# Altium integrated library Passive.IntLib: 1327 symbols (part 1 of 10)
Pins are listed as number, name and electrical type; pins without a type are passive.

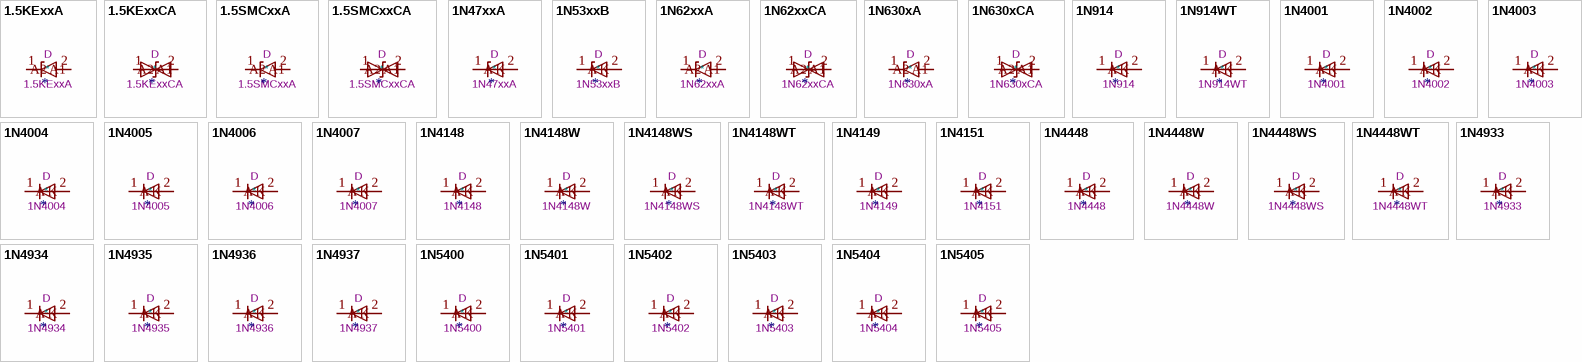
[diagram p0: symbols 1.5KExxA to 1N5405]

## 1.5KExxA
designator *  value 1.5KExxA  Reference: D
1500W unidirectional TVS diode, DO-201AE; ki_keywords: transient voltage suppressor TRANSZORB®; ki_fp_filters: D?DO?201AE*; Footprint: Diode_THT:D_DO-201AE_P15.24mm_Horizontal; Datasheet: https://www.vishay.com/docs/88301/15ke.pdf; Description_: 1500W unidirectional TVS diode, DO-201AE
pins: 1 A1, 2 A2

## 1.5KExxCA
designator *  value 1.5KExxCA  Reference: D
1500W bidirectional TVS diode, DO-201AE; ki_keywords: transient voltage suppressor TRANSZORB®; ki_fp_filters: D?DO?201AE*; Footprint: Diode_THT:D_DO-201AE_P15.24mm_Horizontal; Datasheet: https://www.vishay.com/docs/88301/15ke.pdf; Description_: 1500W bidirectional TVS diode, DO-201AE
pins: 1 A1, 2 A2

## 1.5SMCxxA
designator *  value 1.5SMCxxA  Reference: D
1500W unidirectional TVS diode, SMC (DO-201AB); ki_keywords: transient voltage suppressor TRANSZORB®; ki_fp_filters: D?SMC*; Footprint: Diode_SMD:D_SMC; Datasheet: https://www.vishay.com/docs/88303/15smc.pdf; Description_: 1500W unidirectional TVS diode, SMC (DO-201AB)
pins: 1 A1, 2 A2

## 1.5SMCxxCA
designator *  value 1.5SMCxxCA  Reference: D
1500W bidirectional TVS diode, SMC (DO-201AB); ki_keywords: transient voltage suppressor TRANSZORB®; ki_fp_filters: D?SMC*; Footprint: Diode_SMD:D_SMC; Datasheet: https://www.vishay.com/docs/88303/15smc.pdf; Description_: 1500W bidirectional TVS diode, SMC (DO-201AB)
pins: 1 A1, 2 A2

## 1N47xxA
designator *  value 1N47xxA  Reference: D
1300mW Silicon planar power Zener diodes, DO-41; ki_fp_filters: D*DO?41*; Footprint: Diode_THT:D_DO-41_SOD81_P10.16mm_Horizontal; Datasheet: https://www.vishay.com/docs/85816/1n4728a.pdf; Description_: 1300mW Silicon planar power Zener diodes, DO-41; ki_keywords: zener diode
pins: 1 K, 2 A

## 1N53xxB
designator *  value 1N53xxB  Reference: D
5000mW Zener Diode, DO-201; ki_fp_filters: D*DO?201*; Footprint: Diode_THT:D_DO-201_P15.24mm_Horizontal; Datasheet: https://diotec.com/tl_files/diotec/files/pdf/datasheets/1n5345b.pdf; Description_: 5000mW Zener Diode, DO-201; ki_keywords: zener diode
pins: 1 K, 2 A

## 1N62xxA
designator *  value 1N62xxA  Reference: D
1500W unidirectional TRANSZORB® Transient Voltage Suppressor, DO-201AE; ki_keywords: diode TVS voltage suppressor; ki_fp_filters: D?DO?201AE*; Footprint: Diode_THT:D_DO-201AE_P15.24mm_Horizontal; Datasheet: https://www.vishay.com/docs/88301/15ke.pdf; Description_: 1500W unidirectional TRANSZORB® Transient Voltage Suppressor, DO-201AE
pins: 1 A1, 2 A2

## 1N62xxCA
designator *  value 1N62xxCA  Reference: D
1500W bidirectional TRANSZORB® Transient Voltage Suppressor, DO-201AE; ki_keywords: diode TVS voltage suppressor; ki_fp_filters: D?DO?201AE*; Footprint: Diode_THT:D_DO-201AE_P15.24mm_Horizontal; Datasheet: https://www.vishay.com/docs/88301/15ke.pdf; Description_: 1500W bidirectional TRANSZORB® Transient Voltage Suppressor, DO-201AE
pins: 1 A1, 2 A2

## 1N630xA
designator *  value 1N630xA  Reference: D
1500W unidirectional TRANSZORB® Transient Voltage Suppressor, DO-201AE; ki_keywords: diode TVS voltage suppressor; ki_fp_filters: D?DO?201AE*; Footprint: Diode_THT:D_DO-201AE_P15.24mm_Horizontal; Datasheet: https://www.vishay.com/docs/88301/15ke.pdf; Description_: 1500W unidirectional TRANSZORB® Transient Voltage Suppressor, DO-201AE
pins: 1 A1, 2 A2

## 1N630xCA
designator *  value 1N630xCA  Reference: D
1500W bidirectional TRANSZORB® Transient Voltage Suppressor, DO-201AE; ki_keywords: diode TVS voltage suppressor; ki_fp_filters: D?DO?201AE*; Footprint: Diode_THT:D_DO-201AE_P15.24mm_Horizontal; Datasheet: https://www.vishay.com/docs/88301/15ke.pdf; Description_: 1500W bidirectional TRANSZORB® Transient Voltage Suppressor, DO-201AE
pins: 1 A1, 2 A2

## 1N914
designator *  value 1N914  Reference: D
100V 0.3A Small Signal Fast Switching Diode, DO-35; Sim.Pins: 1=K 2=A; ki_fp_filters: D*DO?35*; Footprint: Diode_THT:D_DO-35_SOD27_P7.62mm_Horizontal; Datasheet: http://www.vishay.com/docs/85622/1n914.pdf; Description_: 100V 0.3A Small Signal Fast Switching Diode, DO-35; Sim.Device: D; ki_keywords: diode
pins: 1 K, 2 A

## 1N914WT
designator *  value 1N914WT  Reference: D
75V 0.15A Fast switching Diode, SOD-523; Sim.Pins: 1=K 2=A; ki_fp_filters: D*SOD?523*; Footprint: Diode_SMD:D_SOD-523; Datasheet: http://www.mouser.com/ds/2/149/1N4148WT-461550.pdf; Description_: 75V 0.15A Fast switching Diode, SOD-523; Sim.Device: D; ki_keywords: diode
pins: 1 K, 2 A

## 1N4001
designator *  value 1N4001  Reference: D
50V 1A General Purpose Rectifier Diode, DO-41; Sim.Pins: 1=K 2=A; ki_fp_filters: D*DO?41*; Footprint: Diode_THT:D_DO-41_SOD81_P10.16mm_Horizontal; Datasheet: http://www.vishay.com/docs/88503/1n4001.pdf; Description_: 50V 1A General Purpose Rectifier Diode, DO-41; Sim.Device: D; ki_keywords: diode
pins: 1 K, 2 A

## 1N4002
designator *  value 1N4002  Reference: D
100V 1A General Purpose Rectifier Diode, DO-41; Sim.Pins: 1=K 2=A; ki_fp_filters: D*DO?41*; Footprint: Diode_THT:D_DO-41_SOD81_P10.16mm_Horizontal; Datasheet: http://www.vishay.com/docs/88503/1n4001.pdf; Description_: 100V 1A General Purpose Rectifier Diode, DO-41; Sim.Device: D; ki_keywords: diode
pins: 1 K, 2 A

## 1N4003
designator *  value 1N4003  Reference: D
200V 1A General Purpose Rectifier Diode, DO-41; Sim.Pins: 1=K 2=A; ki_fp_filters: D*DO?41*; Footprint: Diode_THT:D_DO-41_SOD81_P10.16mm_Horizontal; Datasheet: http://www.vishay.com/docs/88503/1n4001.pdf; Description_: 200V 1A General Purpose Rectifier Diode, DO-41; Sim.Device: D; ki_keywords: diode
pins: 1 K, 2 A

## 1N4004
designator *  value 1N4004  Reference: D
400V 1A General Purpose Rectifier Diode, DO-41; Sim.Pins: 1=K 2=A; ki_fp_filters: D*DO?41*; Footprint: Diode_THT:D_DO-41_SOD81_P10.16mm_Horizontal; Datasheet: http://www.vishay.com/docs/88503/1n4001.pdf; Description_: 400V 1A General Purpose Rectifier Diode, DO-41; Sim.Device: D; ki_keywords: diode
pins: 1 K, 2 A

## 1N4005
designator *  value 1N4005  Reference: D
600V 1A General Purpose Rectifier Diode, DO-41; Sim.Pins: 1=K 2=A; ki_fp_filters: D*DO?41*; Footprint: Diode_THT:D_DO-41_SOD81_P10.16mm_Horizontal; Datasheet: http://www.vishay.com/docs/88503/1n4001.pdf; Description_: 600V 1A General Purpose Rectifier Diode, DO-41; Sim.Device: D; ki_keywords: diode
pins: 1 K, 2 A

## 1N4006
designator *  value 1N4006  Reference: D
800V 1A General Purpose Rectifier Diode, DO-41; Sim.Pins: 1=K 2=A; ki_fp_filters: D*DO?41*; Footprint: Diode_THT:D_DO-41_SOD81_P10.16mm_Horizontal; Datasheet: http://www.vishay.com/docs/88503/1n4001.pdf; Description_: 800V 1A General Purpose Rectifier Diode, DO-41; Sim.Device: D; ki_keywords: diode
pins: 1 K, 2 A

## 1N4007
designator *  value 1N4007  Reference: D
1000V 1A General Purpose Rectifier Diode, DO-41; Sim.Pins: 1=K 2=A; ki_fp_filters: D*DO?41*; Footprint: Diode_THT:D_DO-41_SOD81_P10.16mm_Horizontal; Datasheet: http://www.vishay.com/docs/88503/1n4001.pdf; Description_: 1000V 1A General Purpose Rectifier Diode, DO-41; Sim.Device: D; ki_keywords: diode
pins: 1 K, 2 A

## 1N4148
designator *  value 1N4148  Reference: D
100V 0.15A standard switching diode, DO-35; Sim.Pins: 1=K 2=A; ki_fp_filters: D*DO?35*; Footprint: Diode_THT:D_DO-35_SOD27_P7.62mm_Horizontal; Datasheet: https://assets.nexperia.com/documents/data-sheet/1N4148_1N4448.pdf; Description_: 100V 0.15A standard switching diode, DO-35; Sim.Device: D; ki_keywords: diode
pins: 1 K, 2 A

## 1N4148W
designator *  value 1N4148W  Reference: D
75V 0.15A Fast Switching Diode, SOD-123; Sim.Pins: 1=K 2=A; ki_fp_filters: D*SOD?123*; Footprint: Diode_SMD:D_SOD-123; Datasheet: https://www.vishay.com/docs/85748/1n4148w.pdf; Description_: 75V 0.15A Fast Switching Diode, SOD-123; Sim.Device: D; ki_keywords: diode
pins: 1 K, 2 A

## 1N4148WS
designator *  value 1N4148WS  Reference: D
75V 0.15A Fast switching Diode, SOD-323; Sim.Pins: 1=K 2=A; ki_fp_filters: D*SOD?323*; Footprint: Diode_SMD:D_SOD-323; Datasheet: https://www.vishay.com/docs/85751/1n4148ws.pdf; Description_: 75V 0.15A Fast switching Diode, SOD-323; Sim.Device: D; ki_keywords: diode
pins: 1 K, 2 A

## 1N4148WT
designator *  value 1N4148WT  Reference: D
75V 0.15A Fast switching Diode, SOD-523; Sim.Pins: 1=K 2=A; ki_fp_filters: D*SOD?523*; Footprint: Diode_SMD:D_SOD-523; Datasheet: https://www.diodes.com/assets/Datasheets/ds30396.pdf; Description_: 75V 0.15A Fast switching Diode, SOD-523; Sim.Device: D; ki_keywords: diode
pins: 1 K, 2 A

## 1N4149
designator *  value 1N4149  Reference: D
75V Vrm 0.5A Ifsm standard switching diode, DO-35; Sim.Pins: 1=K 2=A; ki_fp_filters: D*DO?35*; Footprint: Diode_THT:D_DO-35_SOD27_P7.62mm_Horizontal; Datasheet: http://www.microsemi.com/document-portal/doc_view/11580-lds-0239; Description_: 75V Vrm 0.5A Ifsm standard switching diode, DO-35; Sim.Device: D; ki_keywords: diode
pins: 1 K, 2 A

## 1N4151
designator *  value 1N4151  Reference: D
75V 0.5A standard switching diode, DO-35; Sim.Pins: 1=K 2=A; ki_fp_filters: D*DO?35*; Footprint: Diode_THT:D_DO-35_SOD27_P7.62mm_Horizontal; Datasheet: http://www.microsemi.com/document-portal/doc_view/11580-lds-0239; Description_: 75V 0.5A standard switching diode, DO-35; Sim.Device: D; ki_keywords: diode
pins: 1 K, 2 A

## 1N4448
designator *  value 1N4448  Reference: D
100V 0.15A High-speed standard diode, DO-35; Sim.Pins: 1=K 2=A; ki_fp_filters: D*DO?35*; Footprint: Diode_THT:D_DO-35_SOD27_P7.62mm_Horizontal; Datasheet: https://assets.nexperia.com/documents/data-sheet/1N4148_1N4448.pdf; Description_: 100V 0.15A High-speed standard diode, DO-35; Sim.Device: D; ki_keywords: diode
pins: 1 K, 2 A

## 1N4448W
designator *  value 1N4448W  Reference: D
100V 0.15A High-speed standard diode, SOD-123; Sim.Pins: 1=K 2=A; ki_fp_filters: D*SOD?123*; Footprint: Diode_SMD:D_SOD-123; Datasheet: https://www.vishay.com/docs/85722/1n4448w.pdf; Description_: 100V 0.15A High-speed standard diode, SOD-123; Sim.Device: D; ki_keywords: diode
pins: 1 K, 2 A

## 1N4448WS
designator *  value 1N4448WS  Reference: D
75V 0.15A Small Signal Fast switching Diode, SOD-323; Sim.Pins: 1=K 2=A; ki_fp_filters: D*SOD?323*; Footprint: Diode_SMD:D_SOD-323; Datasheet: https://www.vishay.com/docs/81387/1n4448ws.pdf; Description_: 75V 0.15A Small Signal Fast switching Diode, SOD-323; Sim.Device: D; ki_keywords: diode
pins: 1 K, 2 A

## 1N4448WT
designator *  value 1N4448WT  Reference: D
75V 0.15A Fast switching Diode, SOD-523; Sim.Pins: 1=K 2=A; ki_fp_filters: D*SOD?523*; Footprint: Diode_SMD:D_SOD-523; Datasheet: http://www.mouser.com/ds/2/149/1N4148WT-461550.pdf; Description_: 75V 0.15A Fast switching Diode, SOD-523; Sim.Device: D; ki_keywords: diode
pins: 1 K, 2 A

## 1N4933
designator *  value 1N4933  Reference: D
Fast Switching Plastic Rectifier, VRRM 50V, IF(AV) 1.0A, trr 200ns, DO-41; Sim.Pins: 1=K 2=A; ki_keywords: diode; ki_fp_filters: D*DO?41*; Footprint: Diode_THT:D_DO-41_SOD81_P10.16mm_Horizontal; Datasheet: https://www.vishay.com/docs/88508/1n4933.pdf; Description_: Fast Switching Plastic Rectifier, VRRM 50V, IF(AV) 1.0A, trr 200ns, DO-41; Sim.Device: D
pins: 1 K, 2 A

## 1N4934
designator *  value 1N4934  Reference: D
Fast Switching Plastic Rectifier, VRRM 100V, IF(AV) 1.0A, trr 200ns, DO-41; Sim.Pins: 1=K 2=A; ki_keywords: diode; ki_fp_filters: D*DO?41*; Footprint: Diode_THT:D_DO-41_SOD81_P10.16mm_Horizontal; Datasheet: https://www.vishay.com/docs/88508/1n4933.pdf; Description_: Fast Switching Plastic Rectifier, VRRM 100V, IF(AV) 1.0A, trr 200ns, DO-41; Sim.Device: D
pins: 1 K, 2 A

## 1N4935
designator *  value 1N4935  Reference: D
Fast Switching Plastic Rectifier, VRRM 200V, IF(AV) 1.0A, trr 200ns, DO-41; Sim.Pins: 1=K 2=A; ki_keywords: diode; ki_fp_filters: D*DO?41*; Footprint: Diode_THT:D_DO-41_SOD81_P10.16mm_Horizontal; Datasheet: https://www.vishay.com/docs/88508/1n4933.pdf; Description_: Fast Switching Plastic Rectifier, VRRM 200V, IF(AV) 1.0A, trr 200ns, DO-41; Sim.Device: D
pins: 1 K, 2 A

## 1N4936
designator *  value 1N4936  Reference: D
Fast Switching Plastic Rectifier, VRRM 400V, IF(AV) 1.0A, trr 200ns, DO-41; Sim.Pins: 1=K 2=A; ki_keywords: diode; ki_fp_filters: D*DO?41*; Footprint: Diode_THT:D_DO-41_SOD81_P10.16mm_Horizontal; Datasheet: https://www.vishay.com/docs/88508/1n4933.pdf; Description_: Fast Switching Plastic Rectifier, VRRM 400V, IF(AV) 1.0A, trr 200ns, DO-41; Sim.Device: D
pins: 1 K, 2 A

## 1N4937
designator *  value 1N4937  Reference: D
Fast Switching Plastic Rectifier, VRRM 600V, IF(AV) 1.0A, trr 200ns, DO-41; Sim.Pins: 1=K 2=A; ki_keywords: diode; ki_fp_filters: D*DO?41*; Footprint: Diode_THT:D_DO-41_SOD81_P10.16mm_Horizontal; Datasheet: https://www.vishay.com/docs/88508/1n4933.pdf; Description_: Fast Switching Plastic Rectifier, VRRM 600V, IF(AV) 1.0A, trr 200ns, DO-41; Sim.Device: D
pins: 1 K, 2 A

## 1N5400
designator *  value 1N5400  Reference: D
50V 3A General Purpose Rectifier Diode, DO-201AD; Sim.Pins: 1=K 2=A; ki_fp_filters: D*DO?201AD*; Footprint: Diode_THT:D_DO-201AD_P15.24mm_Horizontal; Datasheet: http://www.vishay.com/docs/88516/1n5400.pdf; Description_: 50V 3A General Purpose Rectifier Diode, DO-201AD; Sim.Device: D; ki_keywords: diode
pins: 1 K, 2 A

## 1N5401
designator *  value 1N5401  Reference: D
100V 3A General Purpose Rectifier Diode, DO-201AD; Sim.Pins: 1=K 2=A; ki_fp_filters: D*DO?201AD*; Footprint: Diode_THT:D_DO-201AD_P15.24mm_Horizontal; Datasheet: http://www.vishay.com/docs/88516/1n5400.pdf; Description_: 100V 3A General Purpose Rectifier Diode, DO-201AD; Sim.Device: D; ki_keywords: diode
pins: 1 K, 2 A

## 1N5402
designator *  value 1N5402  Reference: D
200V 3A General Purpose Rectifier Diode, DO-201AD; Sim.Pins: 1=K 2=A; ki_fp_filters: D*DO?201AD*; Footprint: Diode_THT:D_DO-201AD_P15.24mm_Horizontal; Datasheet: http://www.vishay.com/docs/88516/1n5400.pdf; Description_: 200V 3A General Purpose Rectifier Diode, DO-201AD; Sim.Device: D; ki_keywords: diode
pins: 1 K, 2 A

## 1N5403
designator *  value 1N5403  Reference: D
300V 3A General Purpose Rectifier Diode, DO-201AD; Sim.Pins: 1=K 2=A; ki_fp_filters: D*DO?201AD*; Footprint: Diode_THT:D_DO-201AD_P15.24mm_Horizontal; Datasheet: http://www.vishay.com/docs/88516/1n5400.pdf; Description_: 300V 3A General Purpose Rectifier Diode, DO-201AD; Sim.Device: D; ki_keywords: diode
pins: 1 K, 2 A

## 1N5404
designator *  value 1N5404  Reference: D
400V 3A General Purpose Rectifier Diode, DO-201AD; Sim.Pins: 1=K 2=A; ki_fp_filters: D*DO?201AD*; Footprint: Diode_THT:D_DO-201AD_P15.24mm_Horizontal; Datasheet: http://www.vishay.com/docs/88516/1n5400.pdf; Description_: 400V 3A General Purpose Rectifier Diode, DO-201AD; Sim.Device: D; ki_keywords: diode
pins: 1 K, 2 A

## 1N5405
designator *  value 1N5405  Reference: D
500V 3A General Purpose Rectifier Diode, DO-201AD; Sim.Pins: 1=K 2=A; ki_fp_filters: D*DO?201AD*; Footprint: Diode_THT:D_DO-201AD_P15.24mm_Horizontal; Datasheet: http://www.vishay.com/docs/88516/1n5400.pdf; Description_: 500V 3A General Purpose Rectifier Diode, DO-201AD; Sim.Device: D; ki_keywords: diode
pins: 1 K, 2 A

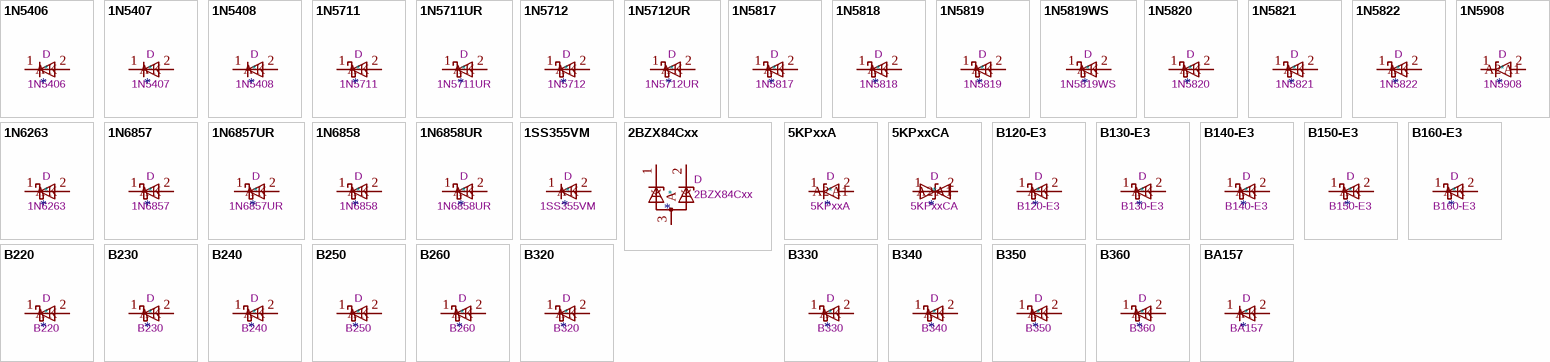
[diagram p1: symbols 1N5406 to BA157]

## 1N5406
designator *  value 1N5406  Reference: D
600V 3A General Purpose Rectifier Diode, DO-201AD; Sim.Pins: 1=K 2=A; ki_fp_filters: D*DO?201AD*; Footprint: Diode_THT:D_DO-201AD_P15.24mm_Horizontal; Datasheet: http://www.vishay.com/docs/88516/1n5400.pdf; Description_: 600V 3A General Purpose Rectifier Diode, DO-201AD; Sim.Device: D; ki_keywords: diode
pins: 1 K, 2 A

## 1N5407
designator *  value 1N5407  Reference: D
800V 3A General Purpose Rectifier Diode, DO-201AD; Sim.Pins: 1=K 2=A; ki_fp_filters: D*DO?201AD*; Footprint: Diode_THT:D_DO-201AD_P15.24mm_Horizontal; Datasheet: http://www.vishay.com/docs/88516/1n5400.pdf; Description_: 800V 3A General Purpose Rectifier Diode, DO-201AD; Sim.Device: D; ki_keywords: diode
pins: 1 K, 2 A

## 1N5408
designator *  value 1N5408  Reference: D
1000V 3A General Purpose Rectifier Diode, DO-201AD; Sim.Pins: 1=K 2=A; ki_fp_filters: D*DO?201AD*; Footprint: Diode_THT:D_DO-201AD_P15.24mm_Horizontal; Datasheet: http://www.vishay.com/docs/88516/1n5400.pdf; Description_: 1000V 3A General Purpose Rectifier Diode, DO-201AD; Sim.Device: D; ki_keywords: diode
pins: 1 K, 2 A

## 1N5711
designator *  value 1N5711  Reference: D
70V 33mA Schottky diode, DO-35; ki_keywords: diode Schottky; ki_fp_filters: D*DO?35*; Footprint: Diode_THT:D_DO-35_SOD27_P7.62mm_Horizontal; Datasheet: https://www.microsemi.com/document-portal/doc_download/8865-lds-0040-datasheet; Description_: 70V 33mA Schottky diode, DO-35
pins: 1 K, 2 A

## 1N5711UR
designator *  value 1N5711UR  Reference: D
70V 33mA Schottky diode, MELF(DO-213AA); ki_keywords: diode Schottky; ki_fp_filters: D?MELF*; Footprint: Diode_SMD:D_MELF; Datasheet: https://www.microsemi.com/document-portal/doc_download/131890-lds-0040-1-datasheet; Description_: 70V 33mA Schottky diode, MELF(DO-213AA)
pins: 1 K, 2 A

## 1N5712
designator *  value 1N5712  Reference: D
20V 75mA Schottky diode, DO-35; ki_keywords: diode Schottky; ki_fp_filters: D*DO?35*; Footprint: Diode_THT:D_DO-35_SOD27_P7.62mm_Horizontal; Datasheet: https://www.microsemi.com/document-portal/doc_download/8865-lds-0040-datasheet; Description_: 20V 75mA Schottky diode, DO-35
pins: 1 K, 2 A

## 1N5712UR
designator *  value 1N5712UR  Reference: D
20V 75mA Schottky diode, MELF(DO-213AA); ki_keywords: diode Schottky; ki_fp_filters: D?MELF*; Footprint: Diode_SMD:D_MELF; Datasheet: https://www.microsemi.com/document-portal/doc_download/131890-lds-0040-1-datasheet; Description_: 20V 75mA Schottky diode, MELF(DO-213AA)
pins: 1 K, 2 A

## 1N5817
designator *  value 1N5817  Reference: D
20V 1A Schottky Barrier Rectifier Diode, DO-41; ki_keywords: diode Schottky; ki_fp_filters: D*DO?41*; Footprint: Diode_THT:D_DO-41_SOD81_P10.16mm_Horizontal; Datasheet: http://www.vishay.com/docs/88525/1n5817.pdf; Description_: 20V 1A Schottky Barrier Rectifier Diode, DO-41
pins: 1 K, 2 A

## 1N5818
designator *  value 1N5818  Reference: D
30V 1A Schottky Barrier Rectifier Diode, DO-41; ki_keywords: diode Schottky; ki_fp_filters: D*DO?41*; Footprint: Diode_THT:D_DO-41_SOD81_P10.16mm_Horizontal; Datasheet: http://www.vishay.com/docs/88525/1n5817.pdf; Description_: 30V 1A Schottky Barrier Rectifier Diode, DO-41
pins: 1 K, 2 A

## 1N5819
designator *  value 1N5819  Reference: D
40V 1A Schottky Barrier Rectifier Diode, DO-41; ki_keywords: diode Schottky; ki_fp_filters: D*DO?41*; Footprint: Diode_THT:D_DO-41_SOD81_P10.16mm_Horizontal; Datasheet: http://www.vishay.com/docs/88525/1n5817.pdf; Description_: 40V 1A Schottky Barrier Rectifier Diode, DO-41
pins: 1 K, 2 A

## 1N5819WS
designator *  value 1N5819WS  Reference: D
40V 600mV@1A 1A SOD-323 Schottky Barrier Diodes, SOD-323; ki_keywords: diode Schottky; ki_fp_filters: D*SOD?323*; Footprint: Diode_SMD:D_SOD-323; Datasheet: https://datasheet.lcsc.com/lcsc/2204281430_Guangdong-Hottech-1N5819WS_C191023.pdf; Description_: 40V 600mV@1A 1A SOD-323 Schottky Barrier Diodes, SOD-323
pins: 1 K, 2 A

## 1N5820
designator *  value 1N5820  Reference: D
20V 3A Schottky Barrier Rectifier Diode, DO-201AD; ki_keywords: diode Schottky; ki_fp_filters: D*DO?201AD*; Footprint: Diode_THT:D_DO-201AD_P15.24mm_Horizontal; Datasheet: http://www.vishay.com/docs/88526/1n5820.pdf; Description_: 20V 3A Schottky Barrier Rectifier Diode, DO-201AD
pins: 1 K, 2 A

## 1N5821
designator *  value 1N5821  Reference: D
30V 3A Schottky Barrier Rectifier Diode, DO-201AD; ki_keywords: diode Schottky; ki_fp_filters: D*DO?201AD*; Footprint: Diode_THT:D_DO-201AD_P15.24mm_Horizontal; Datasheet: http://www.vishay.com/docs/88526/1n5820.pdf; Description_: 30V 3A Schottky Barrier Rectifier Diode, DO-201AD
pins: 1 K, 2 A

## 1N5822
designator *  value 1N5822  Reference: D
40V 3A Schottky Barrier Rectifier Diode, DO-201AD; ki_keywords: diode Schottky; ki_fp_filters: D*DO?201AD*; Footprint: Diode_THT:D_DO-201AD_P15.24mm_Horizontal; Datasheet: http://www.vishay.com/docs/88526/1n5820.pdf; Description_: 40V 3A Schottky Barrier Rectifier Diode, DO-201AD
pins: 1 K, 2 A

## 1N5908
designator *  value 1N5908  Reference: D
1500W (10/1000 μs) Unidirectional TVS Diode, VRM = 5V (IRM = 300 μA at 25°C), VBR = 6V, DO-201AE; ki_keywords: ESD protection transient voltage-suppressor transil thyrector transorb; ki_fp_filters: D?DO?201AE*; Footprint: Diode_THT:D_DO-201AE_P15.24mm_Horizontal; Datasheet: https://www.st.com/resource/en/datasheet/1n5908.pdf; Description_: 1500W (10/1000 μs) Unidirectional TVS Diode, VRM = 5V (IRM = 300 μA at 25°C), VBR = 6V, DO-201AE
pins: 1 A1, 2 A2

## 1N6263
designator *  value 1N6263  Reference: D
60V 15mA Schottky diode, DO-35; ki_keywords: diode Schottky; ki_fp_filters: D*DO?35*; Footprint: Diode_THT:D_DO-35_SOD27_P7.62mm_Horizontal; Datasheet: www.st.com/resource/en/datasheet/1n6263.pdf; Description_: 60V 15mA Schottky diode, DO-35
pins: 1 K, 2 A

## 1N6857
designator *  value 1N6857  Reference: D
20V 150mA Schottky diode, DO-35; ki_keywords: diode Schottky; ki_fp_filters: D*DO?35*; Footprint: Diode_THT:D_DO-35_SOD27_P7.62mm_Horizontal; Datasheet: https://www.microsemi.com/document-portal/doc_download/8865-lds-0040-datasheet; Description_: 20V 150mA Schottky diode, DO-35
pins: 1 K, 2 A

## 1N6857UR
designator *  value 1N6857UR  Reference: D
20V 150mA Schottky diode, MELF(DO-213AA); ki_keywords: diode Schottky; ki_fp_filters: D?MELF*; Footprint: Diode_SMD:D_MELF; Datasheet: https://www.microsemi.com/document-portal/doc_download/131890-lds-0040-1-datasheet; Description_: 20V 150mA Schottky diode, MELF(DO-213AA)
pins: 1 K, 2 A

## 1N6858
designator *  value 1N6858  Reference: D
70V 75mA Schottky diode, DO-35; ki_keywords: diode Schottky; ki_fp_filters: D*DO?35*; Footprint: Diode_THT:D_DO-35_SOD27_P7.62mm_Horizontal; Datasheet: https://www.microsemi.com/document-portal/doc_download/8865-lds-0040-datasheet; Description_: 70V 75mA Schottky diode, DO-35
pins: 1 K, 2 A

## 1N6858UR
designator *  value 1N6858UR  Reference: D
70V 75mA Schottky diode, MELF(DO-213AA); ki_keywords: diode Schottky; ki_fp_filters: D?MELF*; Footprint: Diode_SMD:D_MELF; Datasheet: https://www.microsemi.com/document-portal/doc_download/131890-lds-0040-1-datasheet; Description_: 70V 75mA Schottky diode, MELF(DO-213AA)
pins: 1 K, 2 A

## 1SS355VM
designator *  value 1SS355VM  Reference: D
90V 0.1A high speed switching Diode, SOD-323F; Sim.Pins: 1=K 2=A; ki_fp_filters: D*SOD?323F*; Footprint: Diode_SMD:D_SOD-323F; Datasheet: https://fscdn.rohm.com/en/products/databook/datasheet/discrete/diode/switching/1ss355vmte-17-e.pdf; Description_: 90V 0.1A high speed switching Diode, SOD-323F; Sim.Device: D; ki_keywords: diode
pins: 1 K, 2 A

## 2BZX84Cxx
designator *  value 2BZX84Cxx  Reference: D
300mW Double Zener Diode, SOT-23; ki_fp_filters: SOT?23*; Footprint: Package_TO_SOT_SMD:SOT-23; Datasheet: https://diotec.com/tl_files/diotec/files/pdf/datasheets/bzx84c2v4.pdf; Description_: 300mW Double Zener Diode, SOT-23; ki_keywords: zener diode
pins: 1 K, 2 K, 3 A

## 5KPxxA
designator *  value 5KPxxA  Reference: D
5000W unidirectional Transient Voltage Suppressor, P-600; ki_keywords: diode TVS voltage suppressor; ki_fp_filters: D?P600*; Footprint: Diode_THT:D_P600_R-6_P20.00mm_Horizontal; Datasheet: https://diotec.com/tl_files/diotec/files/pdf/datasheets/5kp65.pdf; Description_: 5000W unidirectional Transient Voltage Suppressor, P-600
pins: 1 A1, 2 A2

## 5KPxxCA
designator *  value 5KPxxCA  Reference: D
5000W bidirectional Transient Voltage Suppressor, P-600; ki_keywords: diode TVS voltage suppressor; ki_fp_filters: D?P600*; Footprint: Diode_THT:D_P600_R-6_P20.00mm_Horizontal; Datasheet: https://diotec.com/tl_files/diotec/files/pdf/datasheets/5kp65.pdf; Description_: 5000W bidirectional Transient Voltage Suppressor, P-600
pins: 1 A1, 2 A2

## B120-E3
designator *  value B120-E3  Reference: D
20V 1A Schottky Barrier Rectifier Diode, SMA(DO-214AC); ki_keywords: diode Schottky; ki_fp_filters: D*SMA*; Footprint: Diode_SMD:D_SMA; Datasheet: http://www.vishay.com/docs/88946/b120.pdf; Description_: 20V 1A Schottky Barrier Rectifier Diode, SMA(DO-214AC)
pins: 1 K, 2 A

## B130-E3
designator *  value B130-E3  Reference: D
30V 1A Schottky Barrier Rectifier Diode, SMA(DO-214AC); ki_keywords: diode Schottky; ki_fp_filters: D*SMA*; Footprint: Diode_SMD:D_SMA; Datasheet: http://www.vishay.com/docs/88946/b120.pdf; Description_: 30V 1A Schottky Barrier Rectifier Diode, SMA(DO-214AC)
pins: 1 K, 2 A

## B140-E3
designator *  value B140-E3  Reference: D
40V 1A Schottky Barrier Rectifier Diode, SMA(DO-214AC); ki_keywords: diode Schottky; ki_fp_filters: D*SMA*; Footprint: Diode_SMD:D_SMA; Datasheet: http://www.vishay.com/docs/88946/b120.pdf; Description_: 40V 1A Schottky Barrier Rectifier Diode, SMA(DO-214AC)
pins: 1 K, 2 A

## B150-E3
designator *  value B150-E3  Reference: D
50V 1A Schottky Barrier Rectifier Diode, SMA(DO-214AC); ki_keywords: diode Schottky; ki_fp_filters: D*SMA*; Footprint: Diode_SMD:D_SMA; Datasheet: http://www.vishay.com/docs/88946/b120.pdf; Description_: 50V 1A Schottky Barrier Rectifier Diode, SMA(DO-214AC)
pins: 1 K, 2 A

## B160-E3
designator *  value B160-E3  Reference: D
60V 1A Schottky Barrier Rectifier Diode, SMA(DO-214AC); ki_keywords: diode Schottky; ki_fp_filters: D*SMA*; Footprint: Diode_SMD:D_SMA; Datasheet: http://www.vishay.com/docs/88946/b120.pdf; Description_: 60V 1A Schottky Barrier Rectifier Diode, SMA(DO-214AC)
pins: 1 K, 2 A

## B220
designator *  value B220  Reference: D
20V 2A Schottky Barrier Rectifier Diode, SMB; ki_keywords: diode Schottky; ki_fp_filters: D*SMB*; Footprint: Diode_SMD:D_SMB; Datasheet: http://www.jameco.com/Jameco/Products/ProdDS/1538777.pdf; Description_: 20V 2A Schottky Barrier Rectifier Diode, SMB
pins: 1 K, 2 A

## B230
designator *  value B230  Reference: D
30V 2A Schottky Barrier Rectifier Diode, SMB; ki_keywords: diode Schottky; ki_fp_filters: D*SMB*; Footprint: Diode_SMD:D_SMB; Datasheet: http://www.jameco.com/Jameco/Products/ProdDS/1538777.pdf; Description_: 30V 2A Schottky Barrier Rectifier Diode, SMB
pins: 1 K, 2 A

## B240
designator *  value B240  Reference: D
40V 2A Schottky Barrier Rectifier Diode, SMB; ki_keywords: diode Schottky; ki_fp_filters: D*SMB*; Footprint: Diode_SMD:D_SMB; Datasheet: http://www.jameco.com/Jameco/Products/ProdDS/1538777.pdf; Description_: 40V 2A Schottky Barrier Rectifier Diode, SMB
pins: 1 K, 2 A

## B250
designator *  value B250  Reference: D
50V 2A Schottky Barrier Rectifier Diode, SMB; ki_keywords: diode Schottky; ki_fp_filters: D*SMB*; Footprint: Diode_SMD:D_SMB; Datasheet: http://www.jameco.com/Jameco/Products/ProdDS/1538777.pdf; Description_: 50V 2A Schottky Barrier Rectifier Diode, SMB
pins: 1 K, 2 A

## B260
designator *  value B260  Reference: D
60V 2A Schottky Barrier Rectifier Diode, SMB; ki_keywords: diode Schottky; ki_fp_filters: D*SMB*; Footprint: Diode_SMD:D_SMB; Datasheet: http://www.jameco.com/Jameco/Products/ProdDS/1538777.pdf; Description_: 60V 2A Schottky Barrier Rectifier Diode, SMB
pins: 1 K, 2 A

## B320
designator *  value B320  Reference: D
20V 3A Schottky Barrier Rectifier Diode, SMC; ki_keywords: diode Schottky; ki_fp_filters: D*SMC*; Footprint: Diode_SMD:D_SMC; Datasheet: http://www.jameco.com/Jameco/Products/ProdDS/1538777.pdf; Description_: 20V 3A Schottky Barrier Rectifier Diode, SMC
pins: 1 K, 2 A

## B330
designator *  value B330  Reference: D
30V 3A Schottky Barrier Rectifier Diode, SMC; ki_keywords: diode Schottky; ki_fp_filters: D*SMC*; Footprint: Diode_SMD:D_SMC; Datasheet: http://www.jameco.com/Jameco/Products/ProdDS/1538777.pdf; Description_: 30V 3A Schottky Barrier Rectifier Diode, SMC
pins: 1 K, 2 A

## B340
designator *  value B340  Reference: D
40V 3A Schottky Barrier Rectifier Diode, SMC; ki_keywords: diode Schottky; ki_fp_filters: D*SMC*; Footprint: Diode_SMD:D_SMC; Datasheet: http://www.jameco.com/Jameco/Products/ProdDS/1538777.pdf; Description_: 40V 3A Schottky Barrier Rectifier Diode, SMC
pins: 1 K, 2 A

## B350
designator *  value B350  Reference: D
50V 3A Schottky Barrier Rectifier Diode, SMC; ki_keywords: diode Schottky; ki_fp_filters: D*SMC*; Footprint: Diode_SMD:D_SMC; Datasheet: http://www.jameco.com/Jameco/Products/ProdDS/1538777.pdf; Description_: 50V 3A Schottky Barrier Rectifier Diode, SMC
pins: 1 K, 2 A

## B360
designator *  value B360  Reference: D
60V 3A Schottky Barrier Rectifier Diode, SMC; ki_keywords: diode Schottky; ki_fp_filters: D*SMC*; Footprint: Diode_SMD:D_SMC; Datasheet: http://www.jameco.com/Jameco/Products/ProdDS/1538777.pdf; Description_: 60V 3A Schottky Barrier Rectifier Diode, SMC
pins: 1 K, 2 A

## BA157
designator *  value BA157  Reference: D
400V 1A Fast recovery Rectifier Diode, DO-41; Sim.Pins: 1=K 2=A; ki_fp_filters: D*DO?41*; Footprint: Diode_THT:D_DO-41_SOD81_P10.16mm_Horizontal; Datasheet: https://www.vishay.com/docs/88536/ba157.pdf; Description_: 400V 1A Fast recovery Rectifier Diode, DO-41; Sim.Device: D; ki_keywords: diode
pins: 1 K, 2 A

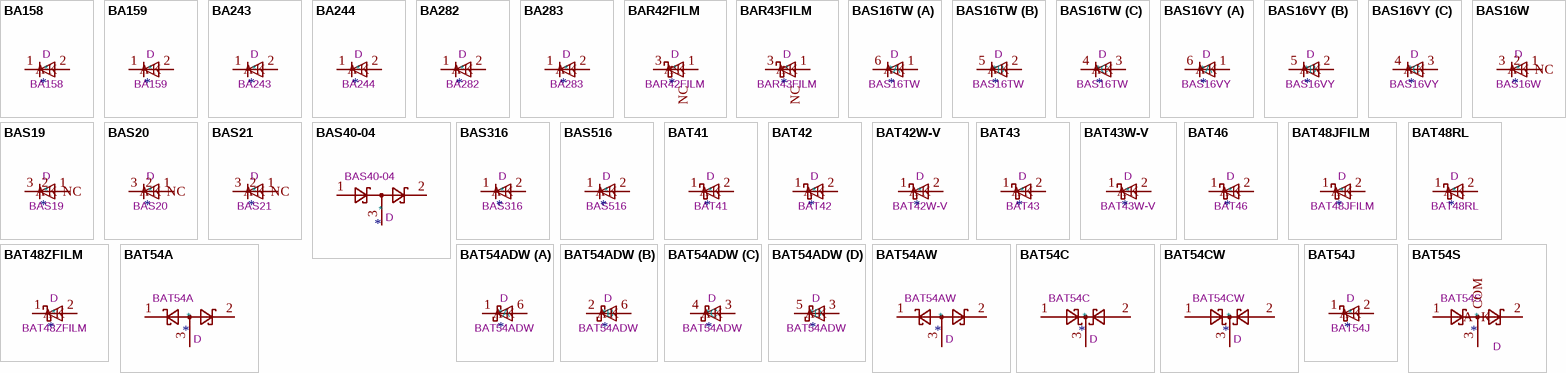
[diagram p2: symbols BA158 to BAT54S]

## BA158
designator *  value BA158  Reference: D
600V 1A Fast recovery Rectifier Diode, DO-41; Sim.Pins: 1=K 2=A; ki_fp_filters: D*DO?41*; Footprint: Diode_THT:D_DO-41_SOD81_P10.16mm_Horizontal; Datasheet: https://www.vishay.com/docs/88536/ba157.pdf; Description_: 600V 1A Fast recovery Rectifier Diode, DO-41; Sim.Device: D; ki_keywords: diode
pins: 1 K, 2 A

## BA159
designator *  value BA159  Reference: D
1000V 1A Fast recovery Rectifier Diode, DO-41; Sim.Pins: 1=K 2=A; ki_fp_filters: D*DO?41*; Footprint: Diode_THT:D_DO-41_SOD81_P10.16mm_Horizontal; Datasheet: https://www.vishay.com/docs/88536/ba157.pdf; Description_: 1000V 1A Fast recovery Rectifier Diode, DO-41; Sim.Device: D; ki_keywords: diode
pins: 1 K, 2 A

## BA243
designator *  value BA243  Reference: D
20V 0.1A silicon planar diode for VHF tuner band selection, DO-35; Sim.Pins: 1=K 2=A; ki_fp_filters: D*DO?35*; Footprint: Diode_THT:D_DO-35_SOD27_P7.62mm_Horizontal; Datasheet: http://cdn-reichelt.de/documents/datenblatt/A400/BA243_TFK.pdf; Description_: 20V 0.1A silicon planar diode for VHF tuner band selection, DO-35; Sim.Device: D; ki_keywords: diode
pins: 1 K, 2 A

## BA244
designator *  value BA244  Reference: D
20V 0.1A silicon planar diode for VHF tuner band selection, DO-35; Sim.Pins: 1=K 2=A; ki_fp_filters: D*DO?35*; Footprint: Diode_THT:D_DO-35_SOD27_P7.62mm_Horizontal; Datasheet: http://cdn-reichelt.de/documents/datenblatt/A400/BA243_TFK.pdf; Description_: 20V 0.1A silicon planar diode for VHF tuner band selection, DO-35; Sim.Device: D; ki_keywords: diode
pins: 1 K, 2 A

## BA282
designator *  value BA282  Reference: D
35V 0.1A Band Switching Diode, DO-35; Sim.Pins: 1=K 2=A; ki_fp_filters: D*DO?35*; Footprint: Diode_THT:D_DO-35_SOD27_P7.62mm_Horizontal; Datasheet: http://docs-europe.electrocomponents.com/webdocs/1304/0900766b813040d6.pdf; Description_: 35V 0.1A Band Switching Diode, DO-35; Sim.Device: D; ki_keywords: diode
pins: 1 K, 2 A

## BA283
designator *  value BA283  Reference: D
35V 0.1A Band Switching Diode, DO-35; Sim.Pins: 1=K 2=A; ki_fp_filters: D*DO?35*; Footprint: Diode_THT:D_DO-35_SOD27_P7.62mm_Horizontal; Datasheet: http://docs-europe.electrocomponents.com/webdocs/1304/0900766b813040d6.pdf; Description_: 35V 0.1A Band Switching Diode, DO-35; Sim.Device: D; ki_keywords: diode
pins: 1 K, 2 A

## BAR42FILM
designator *  value BAR42FILM  Reference: D
30V 0.1A Small signal Schottky diode, SOT-23; ki_keywords: diode Schottky; ki_fp_filters: SOT?23*; Footprint: Package_TO_SOT_SMD:SOT-23; Datasheet: www.st.com/resource/en/datasheet/bar42.pdf; Description_: 30V 0.1A Small signal Schottky diode, SOT-23
pins: 1 A, 2 NC, 3 K

## BAR43FILM
designator *  value BAR43FILM  Reference: D
30V 0.1A Small signal Schottky diode, SOT-23; ki_keywords: diode Schottky; ki_fp_filters: SOT?23*; Footprint: Package_TO_SOT_SMD:SOT-23; Datasheet: www.st.com/resource/en/datasheet/bar43.pdf; Description_: 30V 0.1A Small signal Schottky diode, SOT-23
pins: 1 A, 2 NC, 3 K

## BAS16TW
designator *  value BAS16TW  Reference: D
Fast switching diode array 3 independent; ki_fp_filters: *SOT?363*; Footprint: Package_TO_SOT_SMD:SOT-363_SC-70-6; Datasheet: http://www.diodes.com/datasheets/ds30154.pdf; Description_: Fast switching diode array 3 independent; ki_keywords: diode
part A pins: 1 A, 6 K
part B pins: 2 A, 5 K
part C pins: 3 A, 4 K

## BAS16VY
designator *  value BAS16VY  Reference: D
Fast switching diode array 3 independent; ki_fp_filters: *SOT?363*; Footprint: Package_TO_SOT_SMD:SOT-363_SC-70-6; Datasheet: https://assets.nexperia.com/documents/data-sheet/BAS16_SER.pdf; Description_: Fast switching diode array 3 independent; ki_keywords: diode
part A pins: 1 A, 6 K
part B pins: 2 A, 5 K
part C pins: 3 A, 4 K

## BAS16W
designator *  value BAS16W  Reference: D
100V, 0.175A, High-speed Switching Diode, SOT-323; ki_fp_filters: SOT?323*; Footprint: Package_TO_SOT_SMD:SOT-323_SC-70; Datasheet: https://assets.nexperia.com/documents/data-sheet/BAS16_SER.pdf; Description_: 100V, 0.175A, High-speed Switching Diode, SOT-323; ki_keywords: diode
pins: 1 A, 2 NC, 3 K

## BAS19
designator *  value BAS19  Reference: D
120V, 0.4A, High-speed Switching Diode, SOT-23; ki_fp_filters: SOT?23*; Footprint: Package_TO_SOT_SMD:SOT-23; Datasheet: https://www.diodes.com/assets/Datasheets/Ds12004.pdf; Description_: 120V, 0.4A, High-speed Switching Diode, SOT-23; ki_keywords: diode
pins: 1 A, 2 NC, 3 K

## BAS20
designator *  value BAS20  Reference: D
200V, 0.4A, High-speed Switching Diode, SOT-23; ki_fp_filters: SOT?23*; Footprint: Package_TO_SOT_SMD:SOT-23; Datasheet: https://www.diodes.com/assets/Datasheets/Ds12004.pdf; Description_: 200V, 0.4A, High-speed Switching Diode, SOT-23; ki_keywords: diode
pins: 1 A, 2 NC, 3 K

## BAS21
designator *  value BAS21  Reference: D
250V, 0.4A, High-speed Switching Diode, SOT-23; ki_fp_filters: SOT?23*; Footprint: Package_TO_SOT_SMD:SOT-23; Datasheet: https://www.diodes.com/assets/Datasheets/Ds12004.pdf; Description_: 250V, 0.4A, High-speed Switching Diode, SOT-23; ki_keywords: diode
pins: 1 A, 2 NC, 3 K

## BAS40-04
designator *  value BAS40-04  Reference: D
40V 0.2A Dual Small Signal Schottky Diodes; ki_keywords: Schottky, Diode; ki_fp_filters: SOT?23*; Footprint: Package_TO_SOT_SMD:SOT-23; Datasheet: http://www.vishay.com/docs/85701/bas40v.pdf; Description_: 40V 0.2A Dual Small Signal Schottky Diodes
pins: 1, 2, 3

## BAS316
designator *  value BAS316  Reference: D
100V, 0.25A, High-speed Switching Diode, SOD-323; Sim.Pins: 1=K 2=A; ki_fp_filters: D*SOD?323*; Footprint: Diode_SMD:D_SOD-323; Datasheet: https://assets.nexperia.com/documents/data-sheet/BAS16_SER.pdf; Description_: 100V, 0.25A, High-speed Switching Diode, SOD-323; Sim.Device: D; ki_keywords: diode
pins: 1 K, 2 A

## BAS516
designator *  value BAS516  Reference: D
100V, 0.25A, High-speed Switching Diode, SOD-523; Sim.Pins: 1=K 2=A; ki_fp_filters: D*SOD?523*; Footprint: Diode_SMD:D_SOD-523; Datasheet: https://assets.nexperia.com/documents/data-sheet/BAS16_SER.pdf; Description_: 100V, 0.25A, High-speed Switching Diode, SOD-523; Sim.Device: D; ki_keywords: diode
pins: 1 K, 2 A

## BAT41
designator *  value BAT41  Reference: D
100V 0.1A Small Signal Schottky Diode, DO-35; ki_keywords: diode Schottky; ki_fp_filters: D*DO?35*; Footprint: Diode_THT:D_DO-35_SOD27_P7.62mm_Horizontal; Datasheet: http://www.vishay.com/docs/85659/bat41.pdf; Description_: 100V 0.1A Small Signal Schottky Diode, DO-35
pins: 1 K, 2 A

## BAT42
designator *  value BAT42  Reference: D
30V 0.2A Small Signal Schottky Diode, DO-35; ki_keywords: diode Schottky; ki_fp_filters: D*DO?35*; Footprint: Diode_THT:D_DO-35_SOD27_P7.62mm_Horizontal; Datasheet: http://www.vishay.com/docs/85660/bat42.pdf; Description_: 30V 0.2A Small Signal Schottky Diode, DO-35
pins: 1 K, 2 A

## BAT42W-V
designator *  value BAT42W-V  Reference: D
30V 0.2A Small Signal Schottky diode, SOD-123; ki_keywords: diode Schottky; ki_fp_filters: D*SOD?123*; Footprint: Diode_SMD:D_SOD-123; Datasheet: http://www.vishay.com/docs/85660/bat42.pdf; Description_: 30V 0.2A Small Signal Schottky diode, SOD-123
pins: 1 K, 2 A

## BAT43
designator *  value BAT43  Reference: D
30V 0.2A Small Signal Schottky Diode, DO-35; ki_keywords: diode Schottky; ki_fp_filters: D*DO?35*; Footprint: Diode_THT:D_DO-35_SOD27_P7.62mm_Horizontal; Datasheet: http://www.vishay.com/docs/85660/bat42.pdf; Description_: 30V 0.2A Small Signal Schottky Diode, DO-35
pins: 1 K, 2 A

## BAT43W-V
designator *  value BAT43W-V  Reference: D
30V 0.2A Small Signal Schottky diode, SOD-123; ki_keywords: diode Schottky; ki_fp_filters: D*SOD?123*; Footprint: Diode_SMD:D_SOD-123; Datasheet: http://www.vishay.com/docs/85660/bat42.pdf; Description_: 30V 0.2A Small Signal Schottky diode, SOD-123
pins: 1 K, 2 A

## BAT46
designator *  value BAT46  Reference: D
100V 0.15A Small Signal Schottky Diode, DO-35; ki_keywords: diode Schottky; ki_fp_filters: D*DO?35*; Footprint: Diode_THT:D_DO-35_SOD27_P7.62mm_Horizontal; Datasheet: http://www.vishay.com/docs/85662/bat46.pdf; Description_: 100V 0.15A Small Signal Schottky Diode, DO-35
pins: 1 K, 2 A

## BAT48JFILM
designator *  value BAT48JFILM  Reference: D
40V 0.35A Small Signal Schottky Diode, SOD-323; ki_keywords: diode Schottky; ki_fp_filters: D*SOD?323*; Footprint: Diode_SMD:D_SOD-323; Datasheet: www.st.com/resource/en/datasheet/bat48.pdf; Description_: 40V 0.35A Small Signal Schottky Diode, SOD-323
pins: 1 K, 2 A

## BAT48RL
designator *  value BAT48RL  Reference: D
40V 0.35A Small Signal Schottky Diode, DO-35; ki_keywords: diode Schottky; ki_fp_filters: D*DO?35*; Footprint: Diode_THT:D_DO-35_SOD27_P7.62mm_Horizontal; Datasheet: www.st.com/resource/en/datasheet/bat48.pdf; Description_: 40V 0.35A Small Signal Schottky Diode, DO-35
pins: 1 K, 2 A

## BAT48ZFILM
designator *  value BAT48ZFILM  Reference: D
40V 0.35A Small Signal Schottky Diode, SOD-123; ki_keywords: diode Schottky; ki_fp_filters: D*SOD?123*; Footprint: Diode_SMD:D_SOD-123; Datasheet: www.st.com/resource/en/datasheet/bat48.pdf; Description_: 40V 0.35A Small Signal Schottky Diode, SOD-123
pins: 1 K, 2 A

## BAT54A
designator *  value BAT54A  Reference: D
schottky barrier diode; ki_keywords: schottky diode; ki_fp_filters: SOT?23*; Footprint: Package_TO_SOT_SMD:SOT-23; Datasheet: http://www.diodes.com/_files/datasheets/ds11005.pdf; Description_: schottky barrier diode
pins: 1, 2, 3

## BAT54ADW
designator *  value BAT54ADW  Reference: D
Schottky diode array 2 pair Com A; ki_fp_filters: SOT?363*; Footprint: Package_TO_SOT_SMD:SOT-363_SC-70-6; Datasheet: http://www.diodes.com/datasheets/ds30152.pdf; Description_: Schottky diode array 2 pair Com A; ki_keywords: diode
part A pins: 1 K, 6 A
part B pins: 2 K, 6 A
part C pins: 3 A, 4 K
part D pins: 3 A, 5 K

## BAT54AW
designator *  value BAT54AW  Reference: D
Dual schottky barrier diode, common anode, SOT-323; ki_keywords: dual schottky diode; ki_fp_filters: SOT?323*; Footprint: Package_TO_SOT_SMD:SOT-323_SC-70; Datasheet: https://assets.nexperia.com/documents/data-sheet/BAT54W_SER.pdf; Description_: Dual schottky barrier diode, common anode, SOT-323
pins: 1, 2, 3

## BAT54C
designator *  value BAT54C  Reference: D
dual schottky barrier diode, common cathode; ki_keywords: schottky diode common cathode; ki_fp_filters: SOT?23*; Footprint: Package_TO_SOT_SMD:SOT-23; Datasheet: http://www.diodes.com/_files/datasheets/ds11005.pdf; Description_: dual schottky barrier diode, common cathode
pins: 1, 2, 3

## BAT54CW
designator *  value BAT54CW  Reference: D
Dual schottky barrier diode, common cathode, SOT-323; ki_keywords: dual schottky diode; ki_fp_filters: SOT?323*; Footprint: Package_TO_SOT_SMD:SOT-323_SC-70; Datasheet: https://assets.nexperia.com/documents/data-sheet/BAT54W_SER.pdf; Description_: Dual schottky barrier diode, common cathode, SOT-323
pins: 1, 2, 3

## BAT54J
designator *  value BAT54J  Reference: D
30V 200mA Schottky diode, SOD-323F; ki_keywords: diode Schottky; ki_fp_filters: D*SOD?323F*; Footprint: Diode_SMD:D_SOD-323F; Datasheet: https://assets.nexperia.com/documents/data-sheet/BAT54J.pdf; Description_: 30V 200mA Schottky diode, SOD-323F
pins: 1 K, 2 A

## BAT54S
designator *  value BAT54S  Reference: D
Vr 30V, If 200mA, Dual schottky barrier diode, in series, SOT-323; ki_keywords: schottky diode; ki_fp_filters: SOT?23*; Footprint: Package_TO_SOT_SMD:SOT-23; Datasheet: https://www.diodes.com/assets/Datasheets/ds11005.pdf; Description_: Vr 30V, If 200mA, Dual schottky barrier diode, in series, SOT-323
pins: 1 A, 2 K, 3 COM

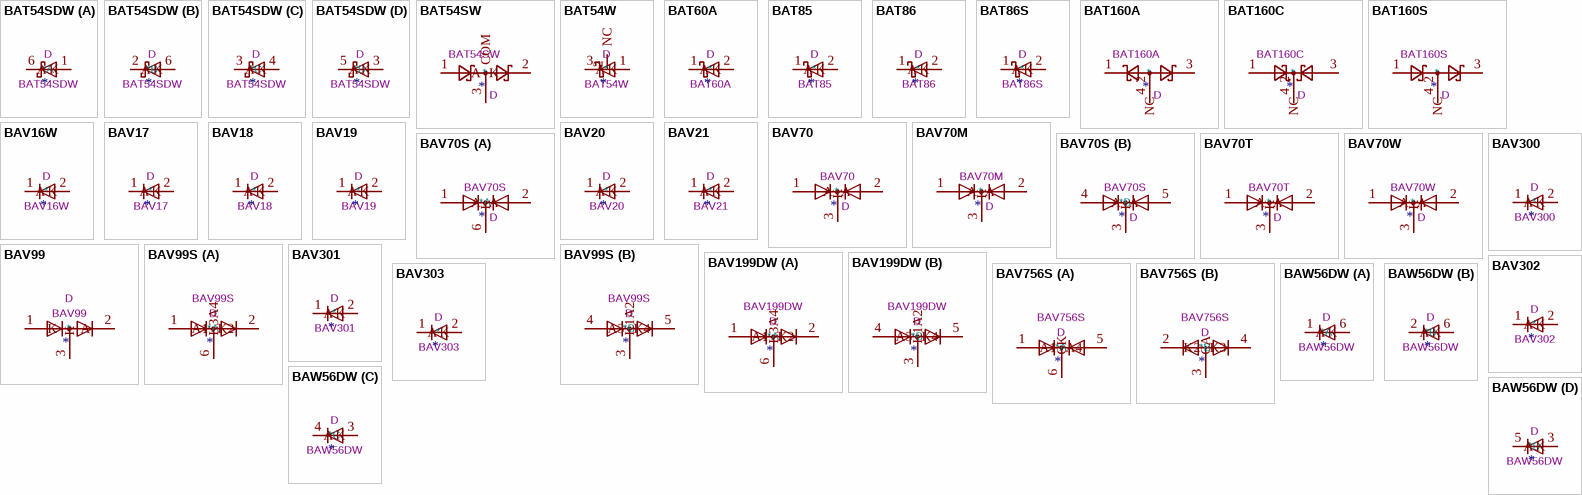
[diagram p3: symbols BAT54SDW to BAW56DW]

## BAT54SDW
designator *  value BAT54SDW  Reference: D
Schottky diode array 2 pair Com A, SOT-363; ki_fp_filters: SOT?363*; Footprint: Package_TO_SOT_SMD:SOT-363_SC-70-6; Datasheet: https://www.diodes.com/assets/Datasheets/BAT54TW_ADW_CDW_SDW_BRW.pdf; Description_: Schottky diode array 2 pair Com A, SOT-363; ki_keywords: diode
part A pins: 1 A, 6 K
part B pins: 2 K, 6 A
part C pins: 3 K, 4 A
part D pins: 3 A, 5 K

## BAT54SW
designator *  value BAT54SW  Reference: D
Vr 30V, If 200mA, Dual schottky barrier diode, in series, SOT-323; ki_keywords: dual schottky diode; ki_fp_filters: SOT?323*; Footprint: Package_TO_SOT_SMD:SOT-323_SC-70; Datasheet: https://assets.nexperia.com/documents/data-sheet/BAT54W_SER.pdf; Description_: Vr 30V, If 200mA, Dual schottky barrier diode, in series, SOT-323
pins: 1 A, 2 K, 3 COM

## BAT54W
designator *  value BAT54W  Reference: D
Schottky barrier diode, SOT-323; ki_keywords: schottky diode; ki_fp_filters: SOT?323*; Footprint: Package_TO_SOT_SMD:SOT-323_SC-70; Datasheet: https://assets.nexperia.com/documents/data-sheet/BAT54W_SER.pdf; Description_: Schottky barrier diode, SOT-323
pins: 1 A, 2 NC, 3 K

## BAT60A
designator *  value BAT60A  Reference: D
10V 3A High Current Recitifier Schottky Diode, SOD-323; ki_keywords: diode Schottky; ki_fp_filters: D*SOD?323*; Footprint: Diode_SMD:D_SOD-323; Datasheet: https://www.infineon.com/dgdl/Infineon-BAT60ASERIES-DS-v01_01-en.pdf?fileId=db3a304313d846880113def70c9304a9; Description_: 10V 3A High Current Recitifier Schottky Diode, SOD-323
pins: 1 K, 2 A

## BAT85
designator *  value BAT85  Reference: D
30V 0.2A Schottky barrier single diode, DO-35; ki_keywords: diode Schottky; ki_fp_filters: D*DO?35*; Footprint: Diode_THT:D_DO-35_SOD27_P7.62mm_Horizontal; Datasheet: https://assets.nexperia.com/documents/data-sheet/BAT85.pdf; Description_: 30V 0.2A Schottky barrier single diode, DO-35
pins: 1 K, 2 A

## BAT86
designator *  value BAT86  Reference: D
50V 0.2A Small Signal Schottky Diode, DO-35; ki_keywords: diode Schottky; ki_fp_filters: D*DO?35*; Footprint: Diode_THT:D_DO-35_SOD27_P7.62mm_Horizontal; Datasheet: https://assets.nexperia.com/documents/data-sheet/BAT86.pdf; Description_: 50V 0.2A Small Signal Schottky Diode, DO-35
pins: 1 K, 2 A

## BAT86S
designator *  value BAT86S  Reference: D
50V 0.2A Small Signal Schottky Diode, DO-35; ki_keywords: diode Schottky; ki_fp_filters: D*DO?35*; Footprint: Diode_THT:D_DO-35_SOD27_P7.62mm_Horizontal; Datasheet: http://www.vishay.com/docs/85514/bat86s.pdf; Description_: 50V 0.2A Small Signal Schottky Diode, DO-35
pins: 1 K, 2 A

## BAT160A
designator *  value BAT160A  Reference: D
Dual schottky barrier diode, common anode, SOT-223; ki_keywords: dual schottky diode; ki_fp_filters: SOT?223*; Footprint: Package_TO_SOT_SMD:SOT-223; Datasheet: https://assets.nexperia.com/documents/data-sheet/BAT160_SERIES.pdf; Description_: Dual schottky barrier diode, common anode, SOT-223
pins: 1, 2 NC, 3, 4

## BAT160C
designator *  value BAT160C  Reference: D
Dual schottky barrier diode, common cathode, SOT-223; ki_keywords: dual schottky diode; ki_fp_filters: SOT?223*; Footprint: Package_TO_SOT_SMD:SOT-223; Datasheet: https://assets.nexperia.com/documents/data-sheet/BAT160_SERIES.pdf; Description_: Dual schottky barrier diode, common cathode, SOT-223
pins: 1, 2 NC, 3, 4

## BAT160S
designator *  value BAT160S  Reference: D
Dual schottky barrier diode, in series, SOT-223; ki_keywords: dual schottky diode; ki_fp_filters: SOT?223*; Footprint: Package_TO_SOT_SMD:SOT-223; Datasheet: https://assets.nexperia.com/documents/data-sheet/BAT160_SERIES.pdf; Description_: Dual schottky barrier diode, in series, SOT-223
pins: 1, 2 NC, 3, 4

## BAV16W
designator *  value BAV16W  Reference: D
75V 0.15A Fast Switching Diode, SOD-123; Sim.Pins: 1=K 2=A; ki_fp_filters: D*SOD?123*; Footprint: Diode_SMD:D_SOD-123; Datasheet: https://www.diodes.com/assets/Datasheets/ds30086.pdf; Description_: 75V 0.15A Fast Switching Diode, SOD-123; Sim.Device: D; ki_keywords: diode
pins: 1 K, 2 A

## BAV17
designator *  value BAV17  Reference: D
20V 0.25A Small Signal Switching Diode, High Voltage, DO-35; Sim.Pins: 1=K 2=A; ki_fp_filters: D*DO?35*; Footprint: Diode_THT:D_DO-35_SOD27_P7.62mm_Horizontal; Datasheet: http://www.vishay.com/docs/85543/bav17.pdf; Description_: 20V 0.25A Small Signal Switching Diode, High Voltage, DO-35; Sim.Device: D; ki_keywords: diode
pins: 1 K, 2 A

## BAV18
designator *  value BAV18  Reference: D
50V 0.25A Small Signal Switching Diode, High Voltage, DO-35; Sim.Pins: 1=K 2=A; ki_fp_filters: D*DO?35*; Footprint: Diode_THT:D_DO-35_SOD27_P7.62mm_Horizontal; Datasheet: http://www.vishay.com/docs/85543/bav17.pdf; Description_: 50V 0.25A Small Signal Switching Diode, High Voltage, DO-35; Sim.Device: D; ki_keywords: diode
pins: 1 K, 2 A

## BAV19
designator *  value BAV19  Reference: D
100V 0.25A Small Signal Switching Diode, High Voltage, DO-35; Sim.Pins: 1=K 2=A; ki_fp_filters: D*DO?35*; Footprint: Diode_THT:D_DO-35_SOD27_P7.62mm_Horizontal; Datasheet: http://www.vishay.com/docs/85543/bav17.pdf; Description_: 100V 0.25A Small Signal Switching Diode, High Voltage, DO-35; Sim.Device: D; ki_keywords: diode
pins: 1 K, 2 A

## BAV20
designator *  value BAV20  Reference: D
150V 0.25A Small Signal Switching Diode, High Voltage, DO-35; Sim.Pins: 1=K 2=A; ki_fp_filters: D*DO?35*; Footprint: Diode_THT:D_DO-35_SOD27_P7.62mm_Horizontal; Datasheet: http://www.vishay.com/docs/85543/bav17.pdf; Description_: 150V 0.25A Small Signal Switching Diode, High Voltage, DO-35; Sim.Device: D; ki_keywords: diode
pins: 1 K, 2 A

## BAV21
designator *  value BAV21  Reference: D
200V 0.25A Small Signal Switching Diode, High Voltage, DO-35; Sim.Pins: 1=K 2=A; ki_fp_filters: D*DO?35*; Footprint: Diode_THT:D_DO-35_SOD27_P7.62mm_Horizontal; Datasheet: http://www.vishay.com/docs/85543/bav17.pdf; Description_: 200V 0.25A Small Signal Switching Diode, High Voltage, DO-35; Sim.Device: D; ki_keywords: diode
pins: 1 K, 2 A

## BAV70
designator *  value BAV70  Reference: D
Dual 100V 215mA high-speed switching diodes, common cathode, SOT-23; ki_keywords: diode; ki_fp_filters: SOT?23*; Footprint: Package_TO_SOT_SMD:SOT-23; Datasheet: https://assets.nexperia.com/documents/data-sheet/BAV70_SER.pdf; Description_: Dual 100V 215mA high-speed switching diodes, common cathode, SOT-23
pins: 1 A, 2 A, 3 K

## BAV70M
designator *  value BAV70M  Reference: D
Dual 100V 150mA high-speed switching diodes, common cathode, SOT-883; ki_keywords: diode; ki_fp_filters: SOT?883*; Footprint: Package_TO_SOT_SMD:SOT-883; Datasheet: https://assets.nexperia.com/documents/data-sheet/BAV70_SER.pdf; Description_: Dual 100V 150mA high-speed switching diodes, common cathode, SOT-883
pins: 1 A, 2 A, 3 K

## BAV70S
designator *  value BAV70S  Reference: D
100V 250mA high-speed switching diodes, dual common cathode, SOT-363; ki_keywords: diode; ki_fp_filters: SOT?363*; Footprint: Package_TO_SOT_SMD:SOT-363_SC-70-6; Datasheet: https://assets.nexperia.com/documents/data-sheet/BAV70_SER.pdf; Description_: 100V 250mA high-speed switching diodes, dual common cathode, SOT-363
part A pins: 1 A, 2 A, 6 K
part B pins: 3 K, 4 A, 5 A

## BAV70T
designator *  value BAV70T  Reference: D
Dual 100V 150mA high-speed switching diodes, common cathode, SOT-416; ki_keywords: diode; ki_fp_filters: SOT?416*; Footprint: Package_TO_SOT_SMD:SOT-416; Datasheet: https://assets.nexperia.com/documents/data-sheet/BAV70_SER.pdf; Description_: Dual 100V 150mA high-speed switching diodes, common cathode, SOT-416
pins: 1 A, 2 A, 3 K

## BAV70W
designator *  value BAV70W  Reference: D
Dual 100V 175mA high-speed switching diodes, common cathode, SOT-323; ki_keywords: diode; ki_fp_filters: SOT?323*; Footprint: Package_TO_SOT_SMD:SOT-323_SC-70; Datasheet: https://assets.nexperia.com/documents/data-sheet/BAV70_SER.pdf; Description_: Dual 100V 175mA high-speed switching diodes, common cathode, SOT-323
pins: 1 A, 2 A, 3 K

## BAV99
designator *  value BAV99  Reference: D
BAV99 High-speed switching diodes, SOT-23; ki_keywords: diode; ki_fp_filters: SOT?23*; Footprint: Package_TO_SOT_SMD:SOT-23; Datasheet: https://assets.nexperia.com/documents/data-sheet/BAV99_SER.pdf; Description_: BAV99 High-speed switching diodes, SOT-23
pins: 1 K, 2 A, 3 K

## BAV99S
designator *  value BAV99S  Reference: D
High-speed switching diodes, dual series, SOT-363; ki_keywords: Diode; ki_fp_filters: SOT?363*; Footprint: Package_TO_SOT_SMD:SOT-363_SC-70-6; Datasheet: https://assets.nexperia.com/documents/data-sheet/BAV99_SER.pdf; Description_: High-speed switching diodes, dual series, SOT-363
part A pins: 1 A1, 2 K2, 6 K3A4
part B pins: 3 K1A2, 4 A3, 5 K4

## BAV199DW
designator *  value BAV199DW  Reference: D
Quad Surface Mount Low Leakage Diode, SOT-363; ki_keywords: Quad diode; ki_fp_filters: SOT?363*; Footprint: Package_TO_SOT_SMD:SOT-363_SC-70-6; Datasheet: https://www.diodes.com/assets/Datasheets/ds30417.pdf; Description_: Quad Surface Mount Low Leakage Diode, SOT-363
part A pins: 1 A1, 2 K2, 6 K3A4
part B pins: 3 K1A2, 4 A3, 5 K4

## BAV300
designator *  value BAV300  Reference: D
50V 0.25A Switching Diode, High Voltage, MicroMELF; Sim.Pins: 1=K 2=A; ki_fp_filters: D*MicroMELF*; Footprint: Diode_SMD:D_MicroMELF; Datasheet: http://www.vishay.com/docs/85545/bav300.pdf; Description_: 50V 0.25A Switching Diode, High Voltage, MicroMELF; Sim.Device: D; ki_keywords: diode
pins: 1 K, 2 A